# EAGLE library part CS4270_SOFTWARE (library CS4270)
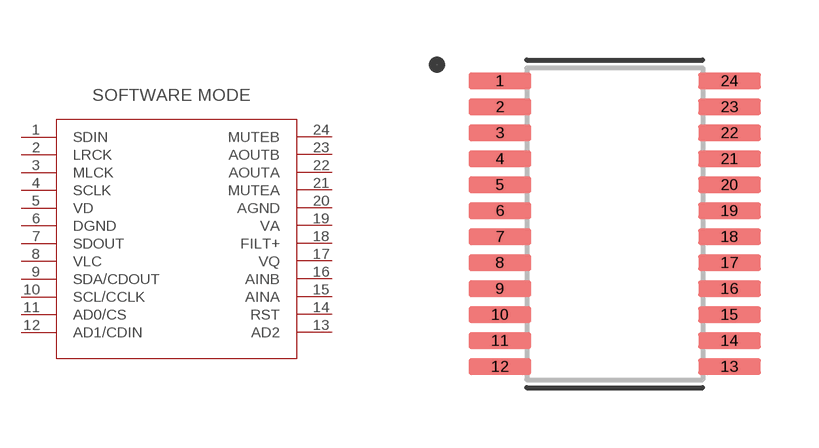
[diagram p0: symbol with the pads of CS4270; footprint CS4270]

Designator prefix -

## CS4270_SOFTWARE  [CS4270]
1  SDIN
2  LRCK
3  MLCK
4  SCLK
5  VD  pwr
6  DGND  pwr
7  SDOUT
8  VLC
9  SDA/CDOUT
10  SCL/CCLK
11  AD0/CS
12  AD1/CDIN
13  AD2
14  RST
15  AINA
16  AINB
17  VQ
18  FILT+
19  VA  pwr
20  AGND  pwr
21  MUTEA
22  AOUTA
23  AOUTB
24  MUTEB

## Footprint CS4270 (pad centres in mm)
smd 1.57 x 0.41: 1 -2.87,3.575; 2 -2.87,2.925; 3 -2.87,2.275; 4 -2.87,1.625; 5 -2.87,0.975; 6 -2.87,0.325; 7 -2.87,-0.325; 8 -2.87,-0.975; 9 -2.87,-1.625; 10 -2.87,-2.275; 11 -2.87,-2.925; 12 -2.87,-3.575; 13 2.87,-3.575; 14 2.87,-2.925; 15 2.87,-2.275; 16 2.87,-1.625; 17 2.87,-0.975; 18 2.87,-0.325; 19 2.87,0.325; 20 2.87,0.975; 21 2.87,1.625; 22 2.87,2.275; 23 2.87,2.925; 24 2.87,3.575